# EAGLE library part 8PIN (library RF_Head)
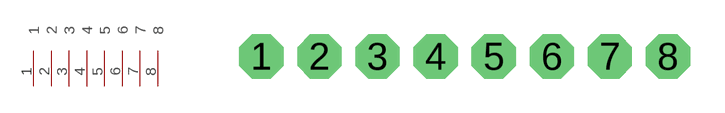
[diagram p0: symbol with the pads of 8PIN; footprint 8PIN]

Designator prefix -

## 8PIN  [8PIN]
1  1  pas
2  2  pas
3  3  pas
4  4  pas
5  5  pas
6  6  pas
7  7  pas
8  8  pas

## Footprint 8PIN (pad centres in mm)
8PIN
drill 1.016 pad 1.93 octagon: 1 0,0; 2 2.54,0; 3 5.08,0; 4 7.62,0; 5 10.16,0; 6 12.7,0; 7 15.24,0; 8 17.78,0